# Altium schematic symbol library TV NQM.SchLib: 25 symbols
Pins are listed as number, name and electrical type; pins without a type are passive.

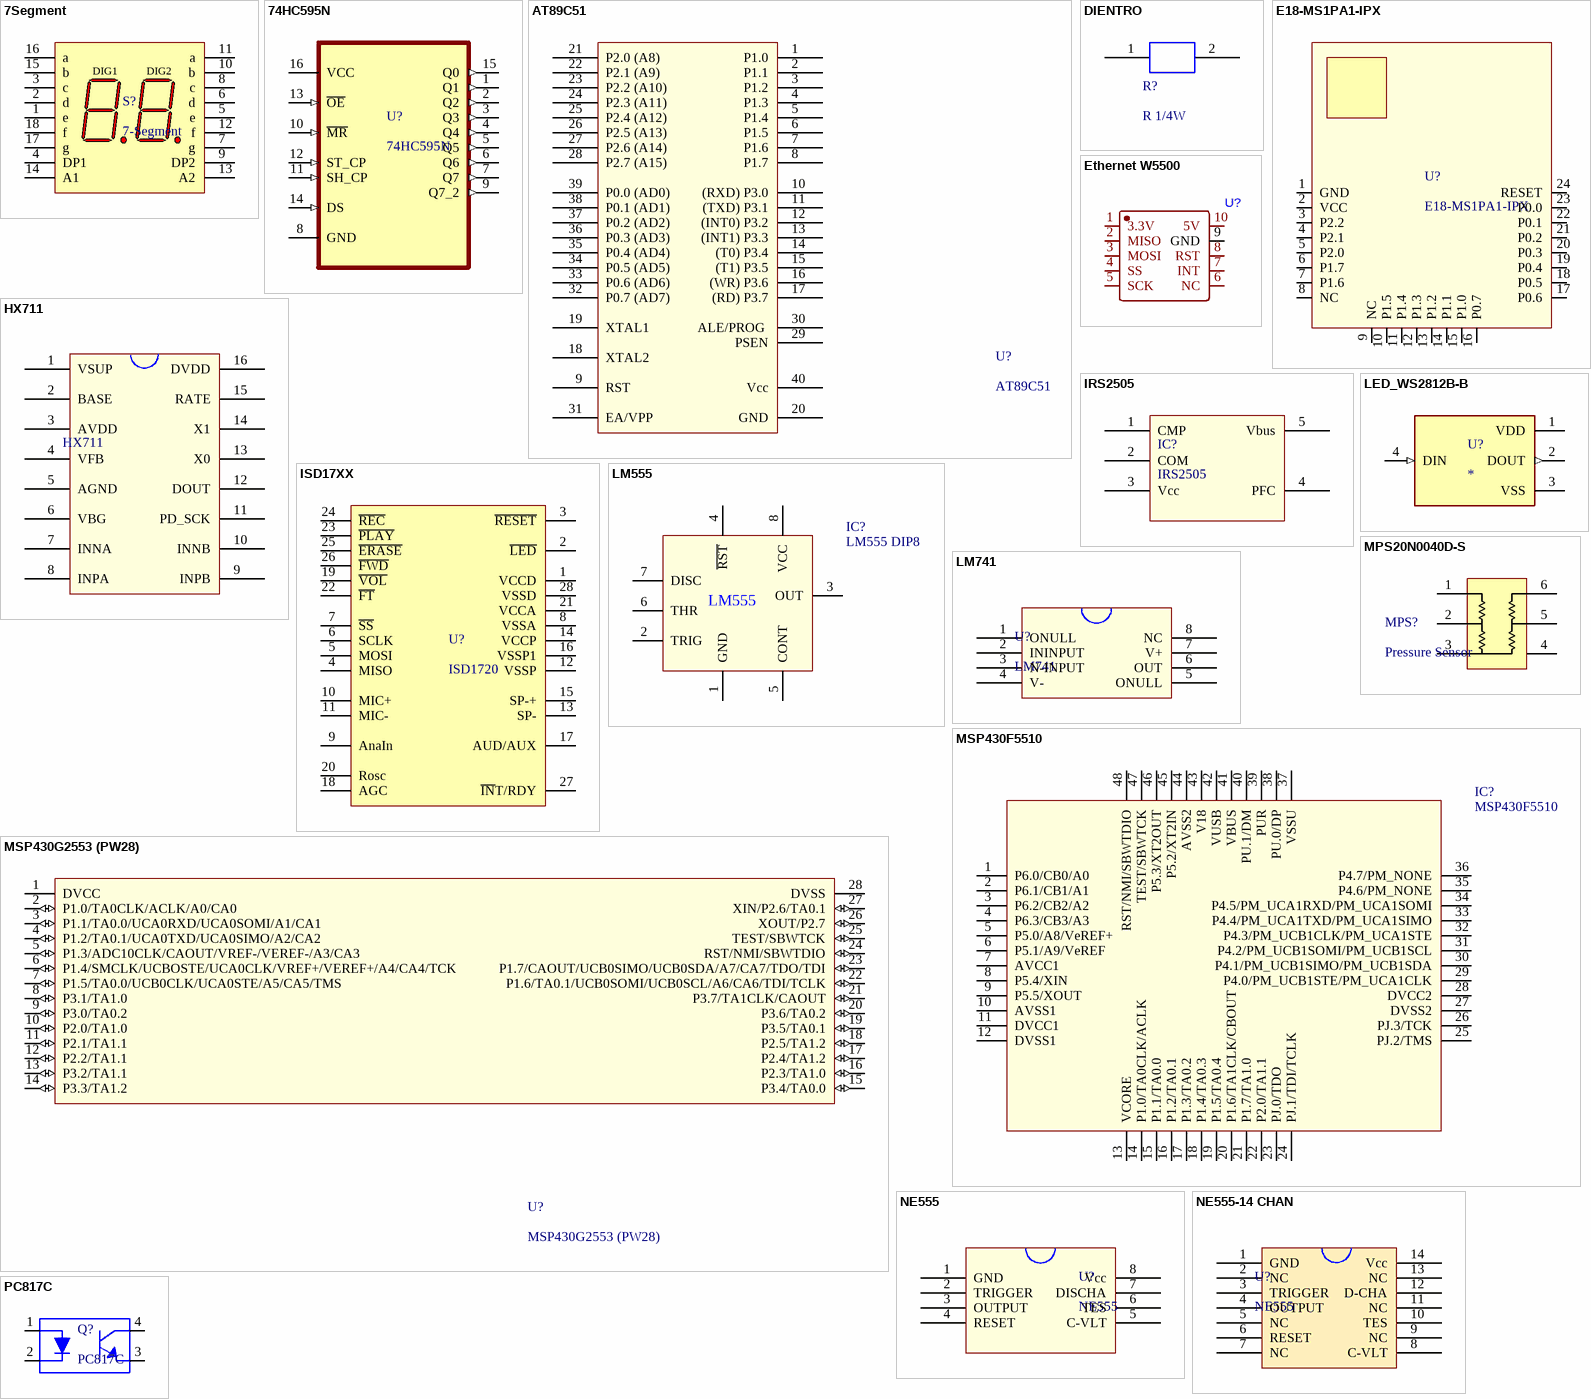
[diagram p0: symbols 7Segment to PC817C]

## 7Segment
designator S?, comment 7-Segment
Designed By @Alixahedi
footprint 2_Digit_Segment
pins: 1 e "Digit 1 e Cathode", 2 d "Digit 1 d Cathode", 3 c "Digit 1 c Cathode", 4 DP1 "Digit 1 DP Cathode", 5 e "Digit 2 e Cathode", 6 d "Digit 2 d Cathode", 7 g "Digit 2 g Cathode", 8 c "Digit 2 c Cathode", 9 DP2 "Digit 2 DP Cathode", 10 b "Digit 2 b Cathode", 11 a "Digit 2 a Cathode", 12 f "Digit 2 f Cathode", 13 A2 "Digit 2  Common Anode", 14 A1 "Digit 1 Common Anode", 15 b "Digit 1 b Cathode", 16 a "Digit 1 a Cathode", 17 g "Digit 1 g Cathode", 18 f "Digit 1 f Cathode"
text: DIG1; DIG2

## 74HC595N
designator U?
Shift Shift Register 1 Element 8 Bit 16-DIP / | Designed By @Alixahedi |; MP: 74HC595N,112; MF: NXP USA; DigiKey-Purchase-URL: https://snapeda.com/shop?store=DigiKey&id=32067; Value: *; Package: DIP-16 NXP Semiconductors; Price: None; SnapEDA_Link: https://www.snapeda.com/parts/74HC595N,112/NXP%20USA%20Inc./view-part/32067/?ref=snap; Availability: Unavailable
footprint DIP254P7-62X420-16
pins: 1 Q1 (out), 2 Q2 (out), 3 Q3 (out), 4 Q4 (out), 5 Q5 (out), 6 Q6 (out), 7 Q7 (out), 8 GND, 9 Q7_2 (out), 10 ~{MR} (in), 11 SH_CP (in), 12 ST_CP (in), 13 ~{OE} (in), 14 DS (in), 15 Q0 (out), 16 VCC (power)

## AT89C51
designator U?
footprint AT89C51
pins: 1 P1.0, 2 P1.1, 3 P1.2, 4 P1.3, 5 P1.4, 6 P1.5, 7 P1.6, 8 P1.7, 9 RST, 10 (RXD) P3.0, 11 (TXD) P3.1, 12 (INT0) P3.2, 13 (INT1) P3.3, 14 (T0) P3.4, 15 (T1) P3.5, 16 (WR) P3.6, 17 (RD) P3.7, 18 XTAL2, 19 XTAL1, 20 GND, 21 P2.0 (A8), 22 P2.1 (A9), 23 P2.2 (A10), 24 P2.3 (A11), 25 P2.4 (A12), 26 P2.5 (A13), 27 P2.6 (A14), 28 P2.7 (A15), 29 PSEN, 30 ALE/PROG , 31 EA/VPP, 32 P0.7 (AD7), 33 P0.6 (AD6), 34 P0.5 (AD5), 35 P0.4 (AD4), 36 P0.3 (AD3), 37 P0.2 (AD2), 38 P0.1 (AD1), 39 P0.0 (AD0), 40 Vcc

## DIENTRO
designator R?, comment R 1/4W
footprint R1W
pins: 1, 2

## E18-MS1PA1-IPX
designator U?
E18-MS1PA1-IPXModule Zigbee CC2530 ; Transmitting power, 100mW ; Receiving sensitivity, 250Kbps ; Communication protocal; VNbuylink: *; Digikeybuylink: *
footprint E18-MS1PA1-IPX ([IC] :CC2530. [Frequency] :2.4GHz. [Power] :20dBm. [Distance] :1.0km. [Interface] :IO. [Introduction])
pins: 1 GND, 2 VCC, 3 P2.2, 4 P2.1, 5 P2.0, 6 P1.7, 7 P1.6, 8 NC, 9 NC, 10 P1.5, 11 P1.4, 12 P1.3, 13 P1.2, 14 P1.1, 15 P1.0, 16 P0.7, 17 P0.6, 18 P0.5, 19 P0.4, 20 P0.3, 21 P0.2, 22 P0.1, 23 P0.0, 24 RESET

## Ethernet W5500
designator U?
footprint Ethernet W5500
pins: 1 3.3V, 2 MISO, 3 MOSI, 4 SS, 5 SCK, 6 NC, 7 INT, 8 RST, 9 GND, 10 5V

## HX711
designator ?
footprint HX711
pins: 1 VSUP, 2 BASE, 3 AVDD, 4 VFB, 5 AGND, 6 VBG, 7 INNA, 8 INPA, 9 INPB, 10 INNB, 11 PD_SCK, 12 DOUT, 13 X0, 14 X1, 15 RATE, 16 DVDD

## IRS2505
designator IC?
footprint IRS2505
pins: 1 CMP, 2 COM, 3 Vcc, 4 PFC, 5 Vbus

## ISD17XX
designator U?, comment ISD1720
Designed By @Alixahedi
footprint DIP28
pins: 1 VCCD, 2 ~{LED}, 3 ~{RESET}, 4 MISO, 5 MOSI, 6 SCLK, 7 ~{SS}, 8 VSSA, 9 AnaIn, 10 MIC+, 11 MIC-, 12 VSSP, 13 SP-, 14 VCCP, 15 SP-+, 16 VSSP1, 17 AUD/AUX, 18 AGC, 19 ~{VOL}, 20 Rosc, 21 VCCA, 22 ~{FT}, 23 ~{PLAY}, 24 ~{REC}, 25 ~{ERASE}, 26 ~{FWD}, 27 ~{IN}T/RDY, 28 VSSD

## LED_WS2812B-B
designator U?
Intelligent control LED integrated light source; MP: WS2812B-B; MF: Worldsemi; SnapEDA_Link: https://www.snapeda.com/parts/WS2812B-B/Worldsemi/view-part/5799638/?ref=snap; Package: Package; Check_prices: https://www.snapeda.com/parts/WS2812B-B/Worldsemi/view-part/5799638/?ref=eda; Availability: Unavailable; Price: None; Value: *
footprint LED_WS2812B-B
pins: 1 VDD (power), 2 DOUT (out), 3 VSS (power), 4 DIN (in)

## LM555
designator IC?, comment LM555 DIP8
Supplier 1: Mouser; Supplier Part Number 1: 926-LM555CN/NOPB
footprint LM555 (DIP8)
pins: 1 GND, 2 TRIG, 3 OUT, 4 ~{RST}, 5 CONT, 6 THR, 7 DISC, 8 VCC

## LM741
designator U?
footprint LM741
pins: 1 ONULL, 2 ININPUT, 3 N-INPUT, 4 V-, 5 ONULL, 6 OUT, 7 V+, 8 NC

## MPS20N0040D-S
designator MPS?, comment Pressure Sensor
Designed By @Alixahedi
footprint MPS20N0040D-S
pins: 1, 2, 3, 4, 5, 6

## MSP430F5510
designator IC?
Supplier 1: Digikey; Supplier Part Number 1: 296-28135-1-ND
footprint MSP430F5510
pins: 1 P6.0/CB0/A0, 2 P6.1/CB1/A1, 3 P6.2/CB2/A2, 4 P6.3/CB3/A3, 5 P5.0/A8/VeREF+, 6 P5.1/A9/VeREF, 7 AVCC1, 8 P5.4/XIN, 9 P5.5/XOUT, 10 AVSS1, 11 DVCC1, 12 DVSS1, 13 VCORE, 14 P1.0/TA0CLK/ACLK, 15 P1.1/TA0.0, 16 P1.2/TA0.1, 17 P1.3/TA0.2, 18 P1.4/TA0.3, 19 P1.5/TA0.4, 20 P1.6/TA1CLK/CBOUT, 21 P1.7/TA1.0, 22 P2.0/TA1.1, 23 PJ.0/TDO, 24 PJ.1/TDI/TCLK, 25 PJ.2/TMS, 26 PJ.3/TCK, 27 DVSS2, 28 DVCC2, 29 P4.0/PM_UCB1STE/PM_UCA1CLK, 30 P4.1/PM_UCB1SIMO/PM_UCB1SDA, 31 P4.2/PM_UCB1SOMI/PM_UCB1SCL, 32 P4.3/PM_UCB1CLK/PM_UCA1STE, 33 P4.4/PM_UCA1TXD/PM_UCA1SIMO, 34 P4.5/PM_UCA1RXD/PM_UCA1SOMI, 35 P4.6/PM_NONE, 36 P4.7/PM_NONE, 37 VSSU, 38 PU.0/DP, 39 PUR, 40 PU.1/DM, 41 VBUS, 42 VUSB, 43 V18, 44 AVSS2, 45 P5.2/XT2IN, 46 P5.3/XT2OUT, 47 TEST/SBWTCK, 48 RST/NMI/SBWTDIO

## MSP430G2553 (PW28)
designator U?
footprint MSP430G2553 (PW28)
pins: 1 DVCC, 2 P1.0/TA0CLK/ACLK/A0/CA0 (io), 3 P1.1/TA0.0/UCA0RXD/UCA0SOMI/A1/CA1 (io), 4 P1.2/TA0.1/UCA0TXD/UCA0SIMO/A2/CA2 (io), 5 P1.3/ADC10CLK/CAOUT/VREF-/VEREF-/A3/CA3 (io), 6 P1.4/SMCLK/UCBOSTE/UCA0CLK/VREF+/VEREF+/A4/CA4/TCK (io), 7 P1.5/TA0.0/UCB0CLK/UCA0STE/A5/CA5/TMS (io), 8 P3.1/TA1.0 (io), 9 P3.0/TA0.2 (io), 10 P2.0/TA1.0 (io), 11 P2.1/TA1.1 (io), 12 P2.2/TA1.1 (io), 13 P3.2/TA1.1 (io), 14 P3.3/TA1.2 (io), 15 P3.4/TA0.0 (io), 16 P2.3/TA1.0 (io), 17 P2.4/TA1.2 (io), 18 P2.5/TA1.2 (io), 19 P3.5/TA0.1 (io), 20 P3.6/TA0.2 (io), 21 P3.7/TA1CLK/CAOUT (io), 22 P1.6/TA0.1/UCB0SOMI/UCB0SCL/A6/CA6/TDI/TCLK (io), 23 P1.7/CAOUT/UCB0SIMO/UCB0SDA/A7/CA7/TDO/TDI (io), 24 RST/NMI/SBWTDIO (io), 25 TEST/SBWTCK (io), 26 XOUT/P2.7 (io), 27 XIN/P2.6/TA0.1 (io), 28 DVSS

## NE555
designator U?
footprint NE555 - 8 chan
pins: 1 GND, 2 TRIGGER , 3 OUTPUT, 4 RESET, 5 C-VLT, 6 TES, 7 DISCHA, 8 Vcc

## NE555-14 CHAN
designator U?, comment NE555
pins: 1 GND, 2 NC, 3 TRIGGER , 4 OUTPUT, 5 NC, 6 RESET, 7 NC, 8 C-VLT, 9 NC, 10 TES, 11 NC, 12 D-CHA, 13 NC, 14 Vcc

## PC817C
designator Q?
Optoisolator Transistor Output 5000Vrms 1 Channel 4-DIP / | Designed By @Alixahedi |; MF: Taiwan Semiconductor; Value: *; Availability: Unavailable; SnapEDA_Link: https://www.snapeda.com/parts/PC817C/Taiwan%20Semiconductor%20Corporation/view-part/2816187/?ref=snap; Package: DIP-4 Taiwan Semiconductor; MP: PC817C; Price: None
footprint PC817-DIP
pins: 1, 2, 3, 4

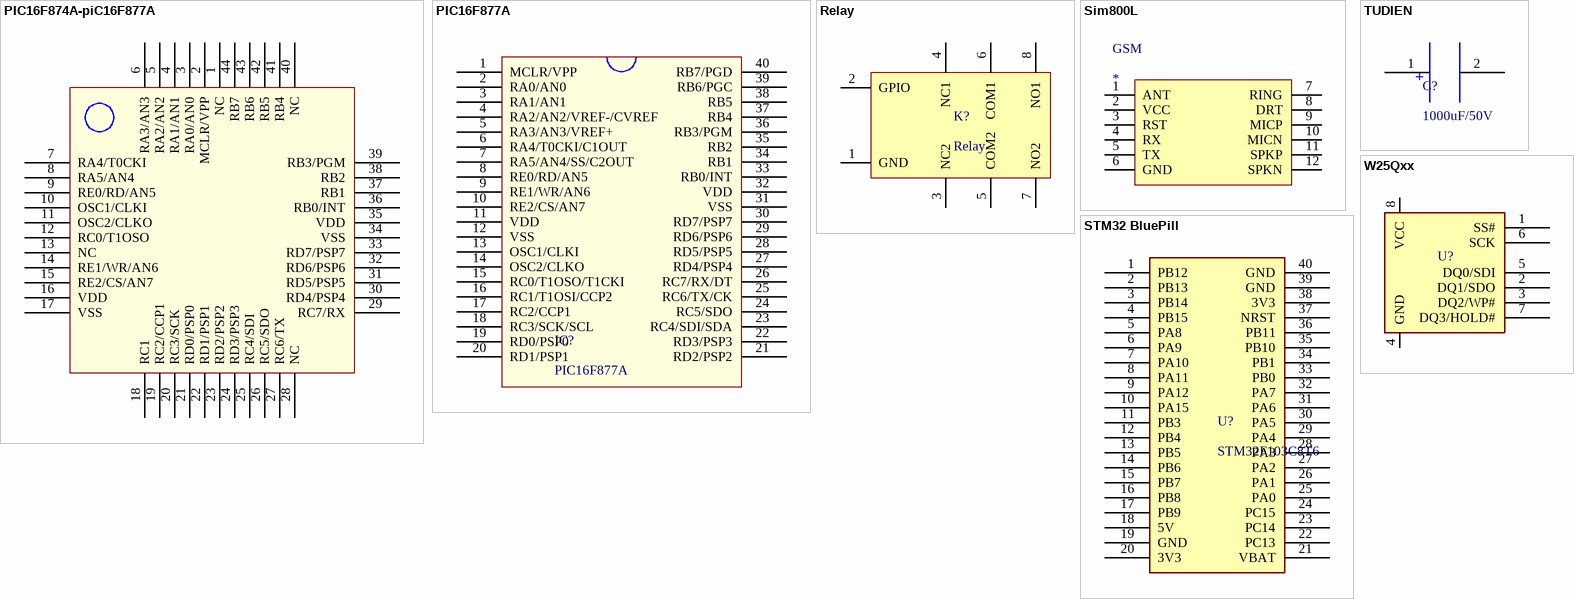
[diagram p1: symbols PIC16F874A-piC16F877A to W25Qxx]

## PIC16F874A-piC16F877A
designator PIC16F874A-PIC16F877A, comment IC?  (value not drawn)
footprint PIC16F874A
pins: 1 NC, 2 MCLR/VPP, 3 RA0/AN0, 4 RA1/AN1, 5 RA2/AN2, 6 RA3/AN3, 7 RA4/T0CKI, 8 RA5/AN4, 9 RE0/RD/AN5, 10 OSC1/CLKI, 11 OSC2/CLKO, 12 RC0/T1OSO, 13 NC, 14 RE1/WR/AN6, 15 RE2/CS/AN7, 16 VDD, 17 VSS, 18 RC1, 19 RC2/CCP1, 20 RC3/SCK, 21 RD0/PSP0, 22 RD1/PSP1, 23 RD2/PSP2, 24 RD3/PSP3, 25 RC4/SDI, 26 RC5/SDO, 27 RC6/TX, 28 NC, 29 RC7/RX, 30 RD4/PSP4, 31 RD5/PSP5, 32 RD6/PSP6, 33 RD7/PSP7, 34 VSS, 35 VDD, 36 RB0/INT, 37 RB1, 38 RB2, 39 RB3/PGM, 40 NC, 41 RB4, 42 RB5, 43 RB6, 44 RB7

## PIC16F877A
designator IC?
footprint pic16f877a
pins: 1 MCLR/VPP, 2 RA0/AN0, 3 RA1/AN1, 4 RA2/AN2/VREF-/CVREF, 5 RA3/AN3/VREF+, 6 RA4/T0CKI/C1OUT, 7 RA5/AN4/SS/C2OUT, 8 RE0/RD/AN5, 9 RE1/WR/AN6, 10 RE2/CS/AN7, 11 VDD, 12 VSS, 13 OSC1/CLKI, 14 OSC2/CLKO, 15 RC0/T1OSO/T1CKI, 16 RC1/T1OSI/CCP2, 17 RC2/CCP1, 18 RC3/SCK/SCL, 19 RD0/PSP0, 20 RD1/PSP1, 21 RD2/PSP2, 22 RD3/PSP3, 23 RC4/SDI/SDA, 24 RC5/SDO, 25 RC6/TX/CK, 26 RC7/RX/DT, 27 RD4/PSP4, 28 RD5/PSP5, 29 RD6/PSP6, 30 RD7/PSP7, 31 VSS, 32 VDD, 33 RB0/INT, 34 RB1, 35 RB2, 36 RB3/PGM, 37 RB4, 38 RB5, 39 RB6/PGC, 40 RB7/PGD

## Relay
designator K?
Designed By @Alixahedi
footprint Relay_1
pins: 1 GND, 2 GPIO, 3 NC2, 4 NC1, 5 COM2, 6 COM1, 7 NO2, 8 NO1

## Sim800L
designator GSM
footprint Sim800L
pins: 1 ANT, 2 VCC, 3 RST, 4 RX, 5 TX, 6 GND, 7 RING, 8 DRT, 9 MICP, 10 MICN, 11 SPKP, 12 SPKN

## STM32 BluePill
designator U?, comment STM32F103C8T6
Designed By @Alixahedi
footprint Stm32 BluePill
pins: 1 PB12, 2 PB13, 3 PB14, 4 PB15, 5 PA8, 6 PA9, 7 PA10, 8 PA11, 9 PA12, 10 PA15, 11 PB3, 12 PB4, 13 PB5, 14 PB6, 15 PB7, 16 PB8, 17 PB9, 18 5V, 19 GND, 20 3V3, 21 VBAT, 22 PC13, 23 PC14, 24 PC15, 25 PA0, 26 PA1, 27 PA2, 28 PA3, 29 PA4, 30 PA5, 31 PA6, 32 PA7, 33 PB0, 34 PB1, 35 PB10, 36 PB11, 37 NRST, 38 3V3, 39 GND, 40 GND

## TUDIEN
designator C?, comment 1000uF/50V
footprint 100uF/25V
pins: 1, 2
text: +

## W25Qxx
designator U?, comment W25Q  (value not drawn)
footprint SO_8_W
pins: 1 SS#, 2 DQ1/SDO, 3 DQ2/WP#, 4 GND, 5 DQ0/SDI, 6 SCK, 7 DQ3/HOLD#, 8 VCC